# Altium footprint library L50T-TEST.PcbLib: 34 footprints (part 2 of 3)
Each footprint in its own frame and in the unit in brackets; x right, y up, seen from the top. Pads: shape width x height; smd on the part's side, far side on the other; paste and mask are expansions set on the pad; w line width, h text height; cw(c..) or ccw(c..) is an arc to the next point about the centre after c.
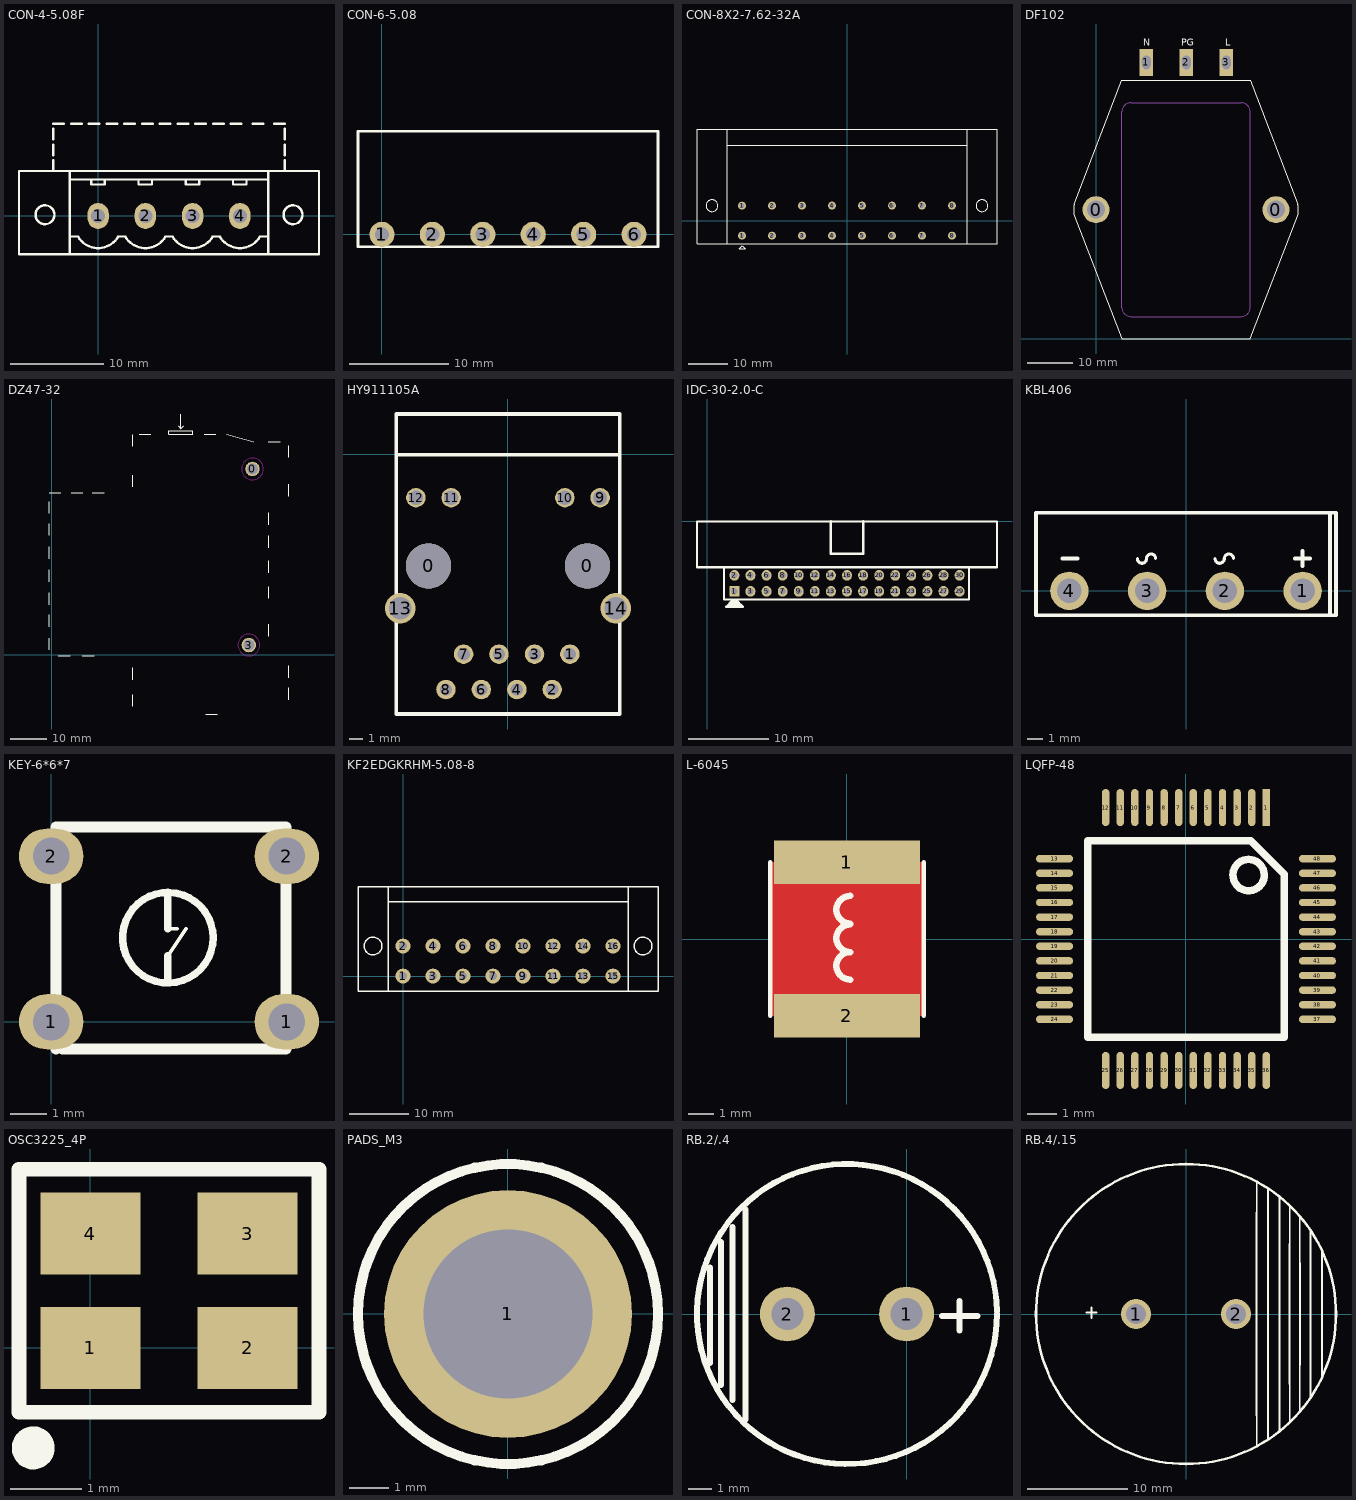
[diagram p1: the footprints below, top view; thin cyan lines are the x and y axes]

## CON-4-5.08F [mil]
pads (4):
  oval 90x110 hole 60: 1(0,0) 2(200,0) 3(400,0) 4(600,0)
Top Overlay:
  circle w10: c825,5 r40
  circle w10: c-225,5 r40
  lines w10: -190,190 -190,235 ; -190,257.5 -190,302.5 ; -190,325 -190,370 ; -190,390 -145,390 ; -170,-162 720,-162 ; -120,154 716,154 ; -120,190 -120,-162 -335,-162 -335,190 935,190 935,-162 720,-162 ; -114.78,390 -69.78,390 ; -114.76,-87 -85.24,-87 ccw(c0,-37.79) 85.24,-87 114.76,-87 ccw(c200,-37.79) 285.24,-87 314.76,-87 ccw(c400,-37.79) 485.24,-87 514.76,-87 ccw(c600,-37.79) 685.24,-87 714.76,-87 ; -39.57,390 5.43,390 ; -29,154 -29,133 28,133 28,154 ; 35.65,390 80.65,390 ; 110.87,390 155.87,390 ; 171,154 171,133 228,133 228,154 ; 186.09,390 231.09,390 ; 261.3,390 306.3,390 ; 336.52,390 381.52,390 ; 371,154 371,133 428,133 428,154 ; 411.74,390 456.74,390 ; 486.96,390 531.96,390 ; 562.17,390 607.17,390 ; 571,154 571,133 628,133 628,154 ; 655,390 700,390 ; 720,190 720,-162 ; 745,390 790,390 ; 790,190 790,235 ; 790,257.5 790,302.5 ; 790,325 790,370

## CON-6-5.08 [mil]
pads (6):
  round 100 hole 56: 1(0,0) 2(200,0) 3(400,0) 4(600,0) 5(800,0) 6(1000,0)
Top Overlay:
  lines w10: -95,-50 1095,-50 1095,410 -95,410 -95,-50

## CON-8X2-7.62-32A [mil]
height 7.87
pads (16):
  round 80 hole 50: 1(-1050,-150.5) 1(-1050,149.5) 2(-750,-150.5) 2(-750,149.5) 3(-450,-150.5) 3(-450,149.5) 4(-150,-150.5) 4(-150,150.5) 5(150,-150.5) 5(150,150.5) 6(450,-150.5) 6(450,150.5) 7(750,-150.5) 7(750,150.5) 8(1050,-150.5) 8(1050,150.5)
Top Overlay:
  circle w10: c-1350,149.5 r59.06
  circle w10: c1350,149.5 r59.06
  lines w10: -1200,755.01 900,755.01 ; 896.01,912.49 600,912.49 300,912.49 0,912.49 -1200,912.49 ; 900,912.49 1200,912.49 ; -1200,-229.24 -1200,912.49 ; -1200,-229.24 0,-229.24 300,-229.24 600,-229.24 900,-229.24 1200,-229.24 ; -1200,-229.24 -1500,-229.24 -1500,912.49 -1200,912.49 ; 1200,-229.24 1500,-229.24 1500,912.49 1200,912.49 ; 1200,-229.24 1200,912.49 ; -1080,-280.5 -1020,-280.5 -1050,-250.5 -1080,-280.5
  lines w12.01: 900,755.01 1189.99,755.01 1199.99,755.01 ; 1199.99,755.01 1200,755
3D body: height 472.44, standoff 0, extent -1505,-228 1505,917.49

## DF102 [mm] "带保险丝、开关、滤波器插座"
pads (5):
  round 6 hole 4: 0(0,28.75) 0(40,28.75)
  rect 3x6 hole 2 slot 3 at 90 deg: 1(11.176,61.468) 2(20.066,61.468) 3(28.956,61.468)
Top Overlay:
  lines w0.254: -4.847,29.977 ccw(c0,28.75) -4.818,27.413 5.75,0 34.25,0 44.818,27.413 ccw(c40,28.75) 44.847,29.977 34.25,57.5 5.75,57.5 -4.847,29.977
  text "L" at 28.702,65.151 h1.52
  text "N" at 10.541,65.151 h1.52
  text "PG" at 18.923,65.151 h1.52
Mechanical 1:
  lines w0.254: 5.75,7 ccw(c7.75,7) 7.75,5 32.25,5 ccw(c32.25,7) 34.25,7 34.25,50.5 ccw(c32.25,50.5) 32.25,52.5 7.75,52.5 ccw(c7.75,50.5) 5.75,50.5 5.75,7

## DZ47-32 [mm]
pads (2):
  round 4 hole 3: 0(55.245,51.224) 3(54.245,2.724)
Top Overlay:
  lines w0.254: -0.755,1.41 -0.755,4.648 ; -0.755,7.76 -0.755,10.998 ; -0.755,13.856 -0.755,17.094 ; -0.755,20.206 -0.755,23.444 ; -0.755,26.556 -0.755,29.794 ; -0.755,32.906 -0.755,36.144 ; -0.755,39.002 -0.755,42.24 ; -0.755,44.724 2.483,44.724 ; 1.785,-0.276 5.023,-0.276 ; 5.277,44.724 8.515,44.724 ; 8.389,-0.276 11.627,-0.276 ; 11.119,44.724 14.357,44.724 ; 22.245,-14.148 22.245,-10.91 ; 22.245,-6.782 22.245,-3.544 ; 22.295,46.304 22.295,49.542 ; 22.295,57.48 22.295,60.718 ; 24.007,60.724 27.245,60.724 ; 34.741,63.068 35.503,62.306 ; 35.503,66.37 35.503,62.306 ; 35.821,60.724 38.805,60.724 ; 36.265,63.068 35.503,62.306 ; 38.687,60.724 32.963,60.724 32.201,60.724 32.201,61.798 38.805,61.798 38.805,60.842 38.745,60.782 ; 41.917,60.724 45.155,60.724 ; 42.361,-16.276 45.599,-16.276 ; 48.203,60.724 55.647,58.75 ; 59.633,58.724 62.871,58.724 ; 59.745,5.156 59.745,8.394 ; 59.745,15.57 59.745,18.808 ; 59.745,22.682 59.745,25.92 ; 59.745,29.54 59.745,32.778 ; 59.745,35.89 59.745,39.128 ; 65.221,-6.274 65.221,-3.036 ; 65.221,43.764 65.221,47.002 ; 65.245,-12.306 65.245,-9.068 ; 65.245,54.432 65.245,57.67
Bottom Overlay:
  circle w0.254: c54.245,2.724 r3
  circle w0.254: c55.245,51.224 r3
Keep-Out Layer:
  circle w0.254: c55.245,51.224 r3
  circle w0.254: c54.245,2.724 r3

## HY911105A [mm]
pads (16):
  round 3.25 hole 3.25 unplated: 0(-5.715,-8.013) 0(5.715,-8.013)
  round 1.4 hole 0.89: 1(4.45,-14.363) 2(3.18,-16.903) 3(1.91,-14.363) 4(0.64,-16.903) 5(-0.65,-14.363) 6(-1.92,-16.903) 7(-3.19,-14.363) 8(-4.46,-16.903)
  round 1.4 hole 1.02: 9(6.625,-3.113) 10(4.085,-3.113) 11(-4.085,-3.113) 12(-6.625,-3.113)
  round 2.2 hole 1.63: 13(-7.745,-11.063) 14(7.745,-11.063)
Top Overlay:
  lines w0.254: -8.05,-0.008 8.05,-0.008 ; -8.05,-18.663 -8.05,2.907 8.05,2.907 8.05,-18.663 -8.05,-18.663
3D body "User Library-HR911105A.STEP": height 13.5, standoff -3, extent -7.94,-18.491 7.94,2.909

## IDC-30-2.0-C [mm]
pads (30):
  rect 1.219x1.321 hole 0.8: 1(3.38,-8.7)
  oval 1.219x1.321 hole 0.8: 2(3.38,-6.7) 3(5.38,-8.7) 4(5.38,-6.7) 5(7.38,-8.7) 6(7.38,-6.7) 7(9.38,-8.7) 8(9.38,-6.7) 9(11.38,-8.7) 10(11.38,-6.7) 11(13.38,-8.7) 12(13.38,-6.7) 13(15.38,-8.7) 14(15.38,-6.7) 15(17.38,-8.7) 16(17.38,-6.7) 17(19.38,-8.7) 18(19.38,-6.7) 19(21.38,-8.7) 20(21.38,-6.7) 21(23.38,-8.7) 22(23.38,-6.7) 23(25.38,-8.7) 24(25.38,-6.7) 25(27.38,-8.7) 26(27.38,-6.7) 27(29.38,-8.7) 28(29.38,-6.7) 29(31.38,-8.7) 30(31.38,-6.7)
Top Overlay:
  lines w0.254: -1.27,-5.7 36.03,-5.7 ; -1.27,-5.684 -1.27,0.016 ; -1.27,0 36.03,0 ; 2.115,-9.716 32.557,-9.716 ; 2.115,-9.656 2.115,-5.7 ; 32.557,-9.71 32.557,-5.7 ; 36.03,-5.684 36.03,0.016
  lines w0.305: 2.745,-10.351 4.142,-10.351 4.269,-10.478 ; 2.808,-10.16 3.951,-10.16 ; 2.999,-9.97 3.634,-9.97 ; 15.38,0 15.38,-4 19.38,-4 19.38,0 ; 2.364,-10.605 4.015,-10.605 4.396,-10.605 3.507,-9.716 3.253,-9.716 2.364,-10.605

## KBL406 [mm]
pads (4):
  round 2.5 hole 1.6: 1(7.62,0) 2(2.54,0) 3(-2.54,0) 4(-7.62,0)
Top Overlay:
  lines w0.203: -3.18,2.1 ccw(c-2.88,2.1) -2.58,2.1 cw(c-2.28,2.1) -1.98,2.1 ; 1.9,2.1 ccw(c2.2,2.1) 2.5,2.1 cw(c2.8,2.1) 3.1,2.1
  lines w0.254: -8.08,2.1 -7.08,2.1 ; 7.12,2.1 8.12,2.1 ; 7.62,1.6 7.62,2.6 ; 9.4,-1.5 9.4,5.1 ; -9.8,-1.6 -9.8,5.1 9.8,5.1 9.8,-1.6 -9.8,-1.6

## KEY-6*6*7 [mil]
height 275.59
pads (4):
  oval 70x60 hole 40: 1(0,0) 1(255.91,0) 2(0,180) 2(255.91,180)
Top Overlay:
  circle w8: c126.73,91.39 r49.21
  lines w4: 126.73,71.71 146.42,101.24 ; 126.73,101.24 136.57,101.24
  lines w8: 126.73,42.18 126.73,71.71 ; 126.73,101.23 126.73,140.61
  lines w12: 5.32,-29.47 5.32,211.47 255,211.47 255,-29.47 12.21,-29.47

## KF2EDGKRHM-5.08-8 [mil]
pads (16):
  round 100 hole 56: 1(0,0) 2(0,200) 3(200,0) 4(200,200) 5(400,0) 6(400,200) 7(600,0) 8(600,200) 9(800,0) 10(800,200) 11(1000,0) 12(1000,200) 13(1200,0) 14(1200,200) 15(1400,0) 16(1400,200)
Top Overlay:
  circle w10: c-200,200 r59.06
  circle w10: c1600,200 r59.06
  lines w10: -100,493.7 1500,493.7 ; -100,-100 1500,-100 ; -100,-100 -100,593.7 ; -100,-100 -300,-100 -300,593.7 -100,593.7 ; -100,593.7 1500,593.7 ; 1500,-100 1500,593.7 ; 1500,-100 1700,-100 1700,593.7 1500,593.7

## L-6045 [mm]
height 4.5
pads (2):
  rect 5.7x1.7 smd: 1(0,3) 2(0,-3)
Top Layer:
  pour cut-out: -3,-3 -3,3 3,3 3,-3
Top Overlay:
  lines w0.178: -3,-3 -3,3 ; 3,-3 3,3
  lines w0.254: 0.127,-1.586 cw(c0.127,-1.047) 0.127,-0.508 cw(c0.127,0.031) 0.127,0.57 ; 0.127,0.604 cw(c0.127,1.143) 0.127,1.682

## LQFP-48 [mm]
pads (48):
  rect 0.254x1.27 smd: 1(2.75,4.5)
  oval 0.254x1.27 smd: 2(2.25,4.5) 3(1.75,4.5) 4(1.25,4.5) 5(0.75,4.5) 6(0.25,4.5) 7(-0.25,4.5) 8(-0.75,4.5) 9(-1.25,4.5) 10(-1.75,4.5) 11(-2.25,4.5) 12(-2.75,4.5) 25(-2.75,-4.5) 26(-2.25,-4.5) 27(-1.75,-4.5) 28(-1.25,-4.5) 29(-0.75,-4.5) 30(-0.25,-4.5) 31(0.25,-4.5) 32(0.75,-4.5) 33(1.25,-4.5) 34(1.75,-4.5) 35(2.25,-4.5) 36(2.75,-4.5)
  oval 1.27x0.254 smd: 13(-4.5,2.75) 14(-4.5,2.25) 15(-4.5,1.75) 16(-4.5,1.25) 17(-4.5,0.75) 18(-4.5,0.25) 19(-4.5,-0.25) 20(-4.5,-0.75) 21(-4.5,-1.25) 22(-4.5,-1.75) 23(-4.5,-2.25) 24(-4.5,-2.75) 37(4.5,-2.75) 38(4.5,-2.25) 39(4.5,-1.75) 40(4.5,-1.25) 41(4.5,-0.75) 42(4.5,-0.25) 43(4.5,0.25) 44(4.5,0.75) 45(4.5,1.25) 46(4.5,1.75) 47(4.5,2.25) 48(4.5,2.75)
Top Overlay:
  lines w0.254: 2.191,1.655 cw(c2.143,2.189) 2.279,1.671 ; -3.357,-3.357 3.357,-3.357 3.357,2.214 2.214,3.357 -3.357,3.357 -3.357,-3.357

## OSC3225_4P [mm]
pads (4):
  rect 1.4x1.15 smd: 1(0,0) 2(2.2,0) 3(2.2,1.6) 4(0,1.6)
Top Overlay:
  circle w0.3: c-0.8,-1.4 r0.15
  lines w0.203: -1,-0.9 3.2,-0.9 3.2,2.5 -1,2.5 -1,-0.9
3D body "User Library-3225-1.STEP": height 0.61, standoff 0, extent -0.5,-0.45 2.7,2.05

## PADS_M3 [mm]
pads (1):
  round 6.2 hole 4.22: 1(0,0)
Top Overlay:
  circle w0.254: c0,0 r3.752

## RB.2/.4 [mil]
height 590.55
pads (2):
  round 92 hole 54: 1(0,0) 2(-200,0)
Top Overlay:
  lines w10: -330,-82 -330,78 ; -311,-119 -311,121 ; -292,-144 -292,146 ; -270,-177 -270,175 ; 59,-3 119,-3 ; 89,-28 89,22 ; 151.57,4.01 ccw(c-100,0) 151.6,0
3D body "User Library-CAP_Electrolytic_10X20.STEP": height 791.34, standoff -185.83, extent -296.85,-196.42 96.35,196.42

## RB.4/.15 [mm]
height 30
pads (2):
  round 3 hole 2: 1(-5,0) 2(5,0)
Top Overlay:
  circle w0.254: c0,0 r15
  lines w0.178: 7.065,-13.128 7.065,-10.16 ; 7.065,10.16 7.065,13.161 ; 8.208,-12.526 8.208,-9.271 ; 8.208,9.271 8.208,12.526 ; 9.351,-11.604 9.351,-8.128 ; 9.351,8.255 9.351,11.764 ; 10.367,-10.748 10.367,-6.985 ; 10.367,6.985 10.367,10.748 ; 11.383,-9.605 11.383,-5.08 ; 11.383,5.08 11.383,9.699 ; 12.446,-8.255 12.446,8.255 ; 13.589,-6.223 13.589,6.223
  lines w0.2: -9.953,0.127 -8.937,0.127 ; -9.445,-0.381 -9.445,0.635 ; 7.065,-10.16 7.065,10.16 ; 8.208,-9.271 8.208,9.271 ; 9.351,-8.255 9.351,8.255 ; 10.367,-6.985 10.367,6.985 ; 11.383,-5.08 11.383,5.08